# Altium footprint library PMEG6045ETPX.PcbLib: 3 footprints
Each footprint in its own frame and in the unit in brackets; x right, y up, seen from the top. Pads: shape width x height; smd on the part's side, far side on the other; paste and mask are expansions set on the pad; w line width, h text height; cw(c..) or ccw(c..) is an arc to the next point about the centre after c.
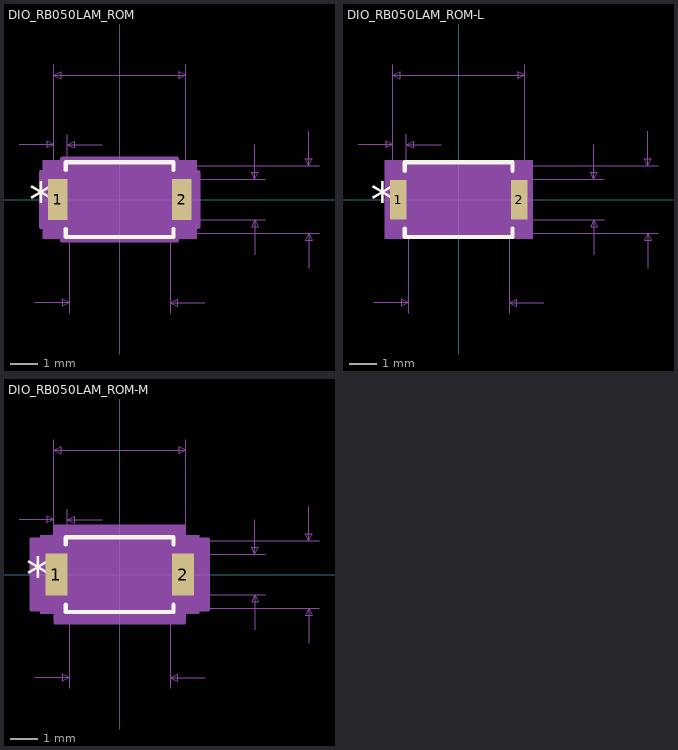
[diagram p0: the footprints below, top view; thin cyan lines are the x and y axes]

## DIO_RB050LAM_ROM [mil]
pads (2):
  rect 28x59 smd paste+0 mask+0: 1(-89.5,0) 2(89.5,0)
Top Overlay:
  lines w6: -78,-42.6 -78,-54 78,-54 78,-42.6 ; -78,42.6 -78,54 78,54 78,42.6
  text "*" at -131,-25 h50
Mechanical 5:
  region: 111,-56.5 -111,-56.5 -111,56.5 111,56.5
Mechanical 7:
  lines w1: -145.5,79.5 -95.5,79.5 ; -123,-149 -73,-149 ; -95.5,94.5 -95.5,0 -95.5,194.5 ; -75.5,0 -75.5,94.5 ; -73,-164 -73,0 ; -25.5,79.5 -75.5,79.5 ; 0,-49 288,-49 ; 0,49 288,49 ; 73,-164 73,0 ; 95.5,-29.5 210.5,-29.5 ; 95.5,0 95.5,194.5 ; 95.5,29.5 210.5,29.5 ; 123,-149 73,-149 ; 195.5,-79.5 195.5,-29.5 ; 195.5,79.5 195.5,29.5 ; 273,-99 273,-49 ; 273,99 273,49 ; -95.5,79.5 -105.5,84.5 -105.5,74.5 -95.5,79.5 ; -95.5,179.5 95.5,179.5 ; -95.5,179.5 -85.5,184.5 -85.5,174.5 -95.5,179.5 ; -75.5,79.5 -65.5,84.5 -65.5,74.5 -75.5,79.5 ; -73,-149 -83,-144 -83,-154 -73,-149 ; 73,-149 83,-144 83,-154 73,-149 ; 95.5,179.5 85.5,184.5 85.5,174.5 95.5,179.5 ; 195.5,-29.5 190.5,-39.5 200.5,-39.5 195.5,-29.5 ; 195.5,29.5 190.5,39.5 200.5,39.5 195.5,29.5 ; 273,-49 268,-59 278,-59 273,-49 ; 273,49 268,59 278,59 273,49
  text "Default Padstyle: RX28Y59D0T" at -350,-354.5 h50
  text "Alt 1 Padstyle: OX60Y90D30P" at -337.5,-429.5 h50
  text "Alt 2 Padstyle: OX90Y60D30P" at -337.5,-504.5 h50
  text "0.191in/4.851mm" at -93.75,199.5 h25
  text "0.02in/0.508mm" at -173,99.5 h25
  text "0.059in/1.499mm" at 215.5,-12.5 h25
  text "0.098in/2.489mm" at 293,-12.5 h25
  text "0.146in/3.708mm" at -93.75,-194 h25
Mechanical 13:
  lines w1: -73,-24.5 -48.5,-49 ; -73,24.5 -48.5,49 ; -95.5,-29.5 -95.5,29.5 -73,29.5 -73,-29.5 -95.5,-29.5 ; -73,-49 73,-49 73,49 -73,49 -73,-49 ; 73,-29.5 73,29.5 95.5,29.5 95.5,-29.5 73,-29.5
  text "*" at -75.5,-25 h50
Mechanical 15:
  region: -83,-39.5 -113.5,-39.5 -113.5,39.5 -83,39.5 -83,59 83,59 83,39.5 113.5,39.5 113.5,-39.5 83,-39.5 83,-59 -83,-59
  lines w6: -113.5,-39.5 -113.5,39.5 -83,39.5 -83,59 83,59 83,39.5 113.5,39.5 113.5,-39.5 83,-39.5 83,-59 -83,-59 -83,-39.5 -113.5,-39.5
3D body: height 10, standoff 0, extent 0,0 10,10

## DIO_RB050LAM_ROM-L [mil]
pads (2):
  rect 24x57 smd paste+0 mask+0: 1(-87.5,0) 2(87.5,0)
Top Overlay:
  lines w6: -78,-41.6 -78,-54 78,-54 78,-41.6 ; -78,41.6 -78,54 78,54 78,41.6
  text "*" at -127,-25 h50
Mechanical 5:
  region: 107,-56.5 -107,-56.5 -107,56.5 107,56.5
Mechanical 7:
  lines w1: -145.5,79.5 -95.5,79.5 ; -123,-149 -73,-149 ; -95.5,94.5 -95.5,0 -95.5,194.5 ; -75.5,0 -75.5,94.5 ; -73,-164 -73,0 ; -25.5,79.5 -75.5,79.5 ; 0,-49 288,-49 ; 0,49 288,49 ; 73,-164 73,0 ; 95.5,-29.5 210.5,-29.5 ; 95.5,0 95.5,194.5 ; 95.5,29.5 210.5,29.5 ; 123,-149 73,-149 ; 195.5,-79.5 195.5,-29.5 ; 195.5,79.5 195.5,29.5 ; 273,-99 273,-49 ; 273,99 273,49 ; -95.5,79.5 -105.5,84.5 -105.5,74.5 -95.5,79.5 ; -95.5,179.5 95.5,179.5 ; -95.5,179.5 -85.5,184.5 -85.5,174.5 -95.5,179.5 ; -75.5,79.5 -65.5,84.5 -65.5,74.5 -75.5,79.5 ; -73,-149 -83,-144 -83,-154 -73,-149 ; 73,-149 83,-144 83,-154 73,-149 ; 95.5,179.5 85.5,184.5 85.5,174.5 95.5,179.5 ; 195.5,-29.5 190.5,-39.5 200.5,-39.5 195.5,-29.5 ; 195.5,29.5 190.5,39.5 200.5,39.5 195.5,29.5 ; 273,-49 268,-59 278,-59 273,-49 ; 273,49 268,59 278,59 273,49
  text "Default Padstyle: RX24Y57D0T" at -350,-353.5 h50
  text "Alt 1 Padstyle: OX60Y90D30P" at -337.5,-428.5 h50
  text "Alt 2 Padstyle: OX90Y60D30P" at -337.5,-503.5 h50
  text "0.191in/4.851mm" at -93.75,199.5 h25
  text "0.02in/0.508mm" at -173,99.5 h25
  text "0.059in/1.499mm" at 215.5,-12.5 h25
  text "0.098in/2.489mm" at 293,-12.5 h25
  text "0.146in/3.708mm" at -93.75,-194 h25
Mechanical 13:
  lines w1: -73,-24.5 -48.5,-49 ; -73,24.5 -48.5,49 ; -95.5,-29.5 -95.5,29.5 -73,29.5 -73,-29.5 -95.5,-29.5 ; -73,-49 73,-49 73,49 -73,49 -73,-49 ; 73,-29.5 73,29.5 95.5,29.5 95.5,-29.5 73,-29.5
  text "*" at -75.5,-25 h50
Mechanical 15:
  region: -77,-32.5 -103.5,-32.5 -103.5,32.5 -77,32.5 -77,53 77,53 77,32.5 103.5,32.5 103.5,-32.5 77,-32.5 77,-53 -77,-53
  lines w6: -103.5,-32.5 -103.5,32.5 -77,32.5 -77,53 77,53 77,32.5 103.5,32.5 103.5,-32.5 77,-32.5 77,-53 -77,-53 -77,-32.5 -103.5,-32.5
3D body: height 10, standoff 0, extent 0,0 10,10

## DIO_RB050LAM_ROM-M [mil]
pads (2):
  rect 32x61 smd paste+0 mask+0: 1(-91.5,0) 2(91.5,0)
Top Overlay:
  lines w6: -78,-43.6 -78,-54 78,-54 78,-43.6 ; -78,43.6 -78,54 78,54 78,43.6
  text "*" at -135,-25 h50
Mechanical 5:
  region: 115,-56.5 -115,-56.5 -115,56.5 115,56.5
Mechanical 7:
  lines w1: -145.5,79.5 -95.5,79.5 ; -123,-149 -73,-149 ; -95.5,94.5 -95.5,0 -95.5,194.5 ; -75.5,0 -75.5,94.5 ; -73,-164 -73,0 ; -25.5,79.5 -75.5,79.5 ; 0,-49 288,-49 ; 0,49 288,49 ; 73,-164 73,0 ; 95.5,-29.5 210.5,-29.5 ; 95.5,0 95.5,194.5 ; 95.5,29.5 210.5,29.5 ; 123,-149 73,-149 ; 195.5,-79.5 195.5,-29.5 ; 195.5,79.5 195.5,29.5 ; 273,-99 273,-49 ; 273,99 273,49 ; -95.5,79.5 -105.5,84.5 -105.5,74.5 -95.5,79.5 ; -95.5,179.5 95.5,179.5 ; -95.5,179.5 -85.5,184.5 -85.5,174.5 -95.5,179.5 ; -75.5,79.5 -65.5,84.5 -65.5,74.5 -75.5,79.5 ; -73,-149 -83,-144 -83,-154 -73,-149 ; 73,-149 83,-144 83,-154 73,-149 ; 95.5,179.5 85.5,184.5 85.5,174.5 95.5,179.5 ; 195.5,-29.5 190.5,-39.5 200.5,-39.5 195.5,-29.5 ; 195.5,29.5 190.5,39.5 200.5,39.5 195.5,29.5 ; 273,-49 268,-59 278,-59 273,-49 ; 273,49 268,59 278,59 273,49
  text "Default Padstyle: RX32Y61D0T" at -350,-355.5 h50
  text "Alt 1 Padstyle: OX60Y90D30P" at -337.5,-430.5 h50
  text "Alt 2 Padstyle: OX90Y60D30P" at -337.5,-505.5 h50
  text "0.191in/4.851mm" at -93.75,199.5 h25
  text "0.02in/0.508mm" at -173,99.5 h25
  text "0.059in/1.499mm" at 215.5,-12.5 h25
  text "0.098in/2.489mm" at 293,-12.5 h25
  text "0.146in/3.708mm" at -93.75,-194 h25
Mechanical 13:
  lines w1: -73,-24.5 -48.5,-49 ; -73,24.5 -48.5,49 ; -95.5,-29.5 -95.5,29.5 -73,29.5 -73,-29.5 -95.5,-29.5 ; -73,-49 73,-49 73,49 -73,49 -73,-49 ; 73,-29.5 73,29.5 95.5,29.5 95.5,-29.5 73,-29.5
  text "*" at -75.5,-25 h50
Mechanical 15:
  region: -93,-50.5 -127.5,-50.5 -127.5,50.5 -93,50.5 -93,69 93,69 93,50.5 127.5,50.5 127.5,-50.5 93,-50.5 93,-69 -93,-69
  lines w6: -127.5,-50.5 -127.5,50.5 -93,50.5 -93,69 93,69 93,50.5 127.5,50.5 127.5,-50.5 93,-50.5 93,-69 -93,-69 -93,-50.5 -127.5,-50.5
3D body: height 10, standoff 0, extent 0,0 10,10